# Altium schematic symbol library SAMTEC-TSM-103-01-X-DH.SchLib: 1 symbol
Pins are listed as number, name and electrical type; pins without a type are passive.

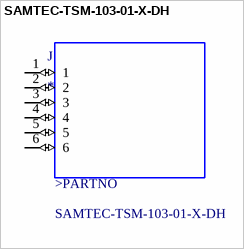
[diagram p0: symbol SAMTEC-TSM-103-01-X-DH]

## SAMTEC-TSM-103-01-X-DH
designator J
MP: SAMTEC-TSM-103-01-X-DH; MF: Samtec; Package: None; Availability: Unavailable; Value: *; Price: None
footprint SAMTEC-TSM-103-01-X-DH
pins: 1 (io), 2 (io), 3 (io), 4 (io), 5 (io), 6 (io)
text: >PARTNO